# Altium schematic symbol library 1206_tantalio.SchLib: 1 symbol
Pins are listed as number, name and electrical type; pins without a type are passive.

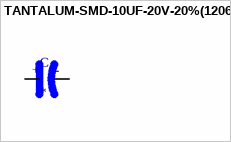
[diagram p0: symbol TANTALUM-SMD-10UF-20V-20%(1206)]

## TANTALUM-SMD-10UF-20V-20%(1206)
designator C
10ÂµF Molded Tantalum Capacitors 20V 1206 _3216 Metric_ 5Ohm; MF: KEMET; MP: T491A106M020AT; Value: *; Package: 1206 Kemet; Price: None; Availability: Unavailable; SnapEDA_Link: https://www.snapeda.com/parts/T491A106M020AT/KEMET/view-part/104616/?ref=snap
footprint CT1206
pins: NEG, POS
text: +; -